# Altium schematic symbol library BL4054B.SchLib: 1 symbol
Pins are listed as number, name and electrical type; pins without a type are passive.

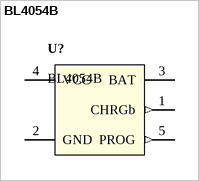
[diagram p0: symbol BL4054B]

## BL4054B
designator U?
800mA Standalone Linear Li-Ion Battery Charger
footprint TSOT23-5 (Footprint not found)
pins: 1 CHRGb (out), 2 GND (power), 3 BAT (power), 4 VCC (power), 5 PROG (out)